# Altium schematic symbol library ANT_UMCC_PCB.Schlib: 1 symbol
Pins are listed as number, name and electrical type; pins without a type are passive.

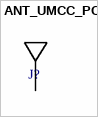
[diagram p0: symbol ANT_UMCC_PCB]

## ANT_UMCC_PCB
designator J?  (value not drawn)
footprint CONECTOR SMA
pins: 1, 2 hidden to GND, 3 hidden to GND